# EAGLE library part PMOSMSOP8 (library zetex)
MOS FET
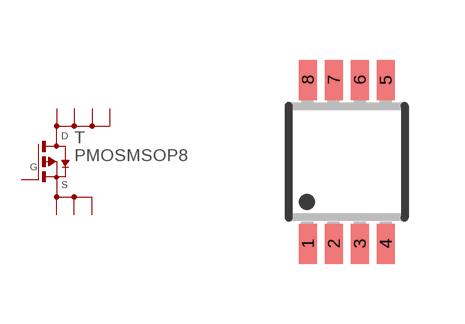
[diagram p12: symbol with the pads of MSOP8; footprint MSOP8]

Designator prefix T

## PMOSMSOP8  [MSOP8]
1  S  pas
2  S1  pas
3  S2  pas
4  G  pas
5  D  pas
6  D1  pas
7  D2  pas
8  D3  pas

## Footprint MSOP8 (pad centres in mm)
Micro Small Outline Package
smd 0.45 x 1: 1 -0.975,-2.05; 2 -0.325,-2.05; 3 0.325,-2.05; 4 0.975,-2.05; 5 0.975,2.05; 6 0.325,2.05; 7 -0.325,2.05; 8 -0.975,2.05